# EAGLE library part NRF24L01 (library A4988)
nrF54L01 2.4GHz with 100 Channels Emitter/Reveiver SPI Controlled Roboshop / Minint
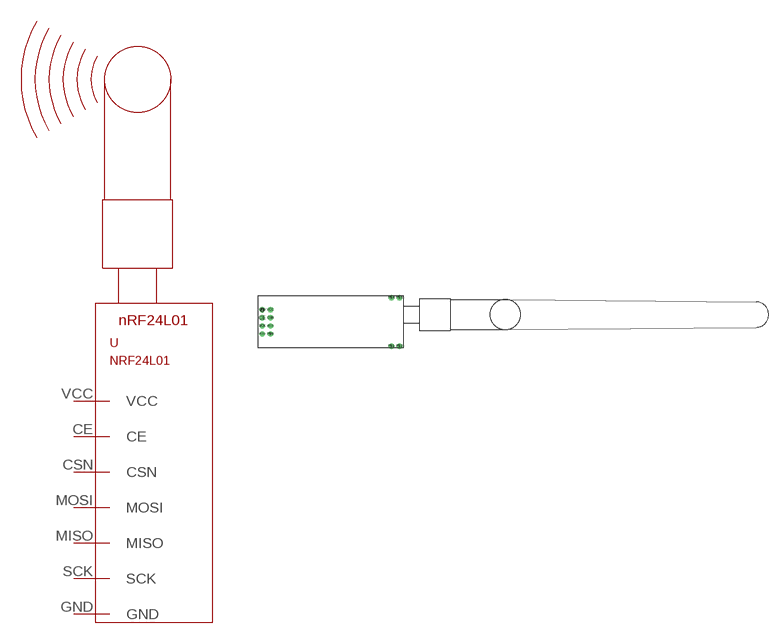
[diagram p18: symbol with the pads of NRF24L01; footprint NRF24L01]

Designator prefix -

## NRF24L01  [NRF24L01]
CE  CE
CSN  CSN
GND  GND
MISO  MISO
MOSI  MOSI
SCK  SCK
VCC  VCC

## Footprint NRF24L01 (pad centres in mm)
nRF24L01 2.4GHz Emitter Reveiver SPI controlled Available Roboshop
drill 0.8 pad 1.676: CE 0,-2.54; CSN 2.54,-2.54; GND 0,0; MISO 0,-7.62; MOSI 2.54,-5.08; P$1 40.64,-11.43; P$2 43.18,-11.43; P$3 43.18,3.81; P$4 40.64,3.81; P$8 2.54,-7.62; SCK 0,-5.08; VCC 2.54,0